# EAGLE library part AD8607 (library SparkFun-IC-Amplifiers)
Micropower Low-noise Rail to Rail OP-AMP Datasheet SparkFun Products () Currently in prototype (unknown project)
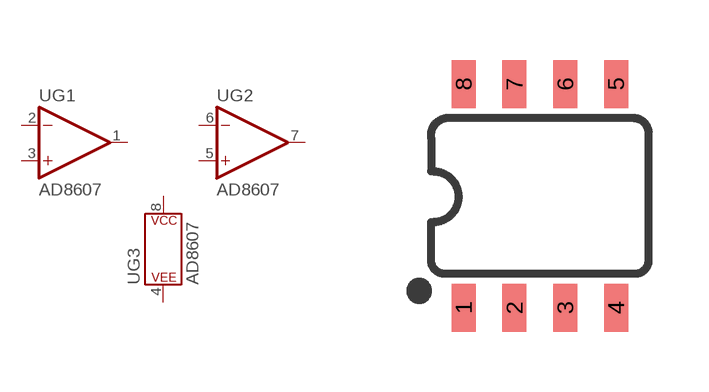
[diagram p4: symbol with the pads of SO08; footprint SO08]

Designator prefix U; gates G1=OP-AMP G2=OP-AMP G3=POWER_CONSORT

## AD8607 (PROD_ID: IC-13133; VALUE: AD8607)  [SO08]
1  G1:OUT  out
2  G1:-IN  in
3  G1:+IN  in
4  G3:P$V-
5  G2:+IN  in
6  G2:-IN  in
7  G2:OUT  out
8  G3:P$V+

## Footprint SO08 (pad centres in mm)
SOIC, 0.15 inch width
smd 0.6 x 1.2: 1 -1.905,-2.8; 2 -0.635,-2.8; 3 0.635,-2.8; 4 1.905,-2.8; 5 1.905,2.8; 6 0.635,2.8; 7 -0.635,2.8; 8 -1.905,2.8